# Altium integrated library WCAP-PSLC_rev15a.intlib: 29 symbols
Pins are listed as number, name and electrical type; pins without a type are passive.

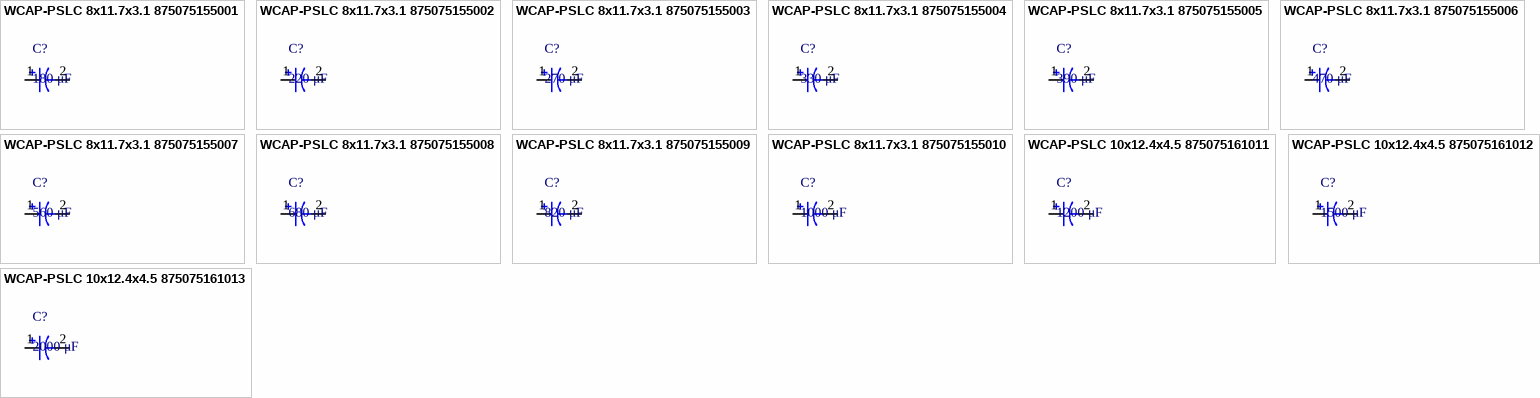
[diagram p0: symbols WCAP-PSLC 8x11.7x3.1 875075155001 to WCAP-PSLC 10x12.4x4.5 875075161013]

## WCAP-PSLC 8x11.7x3.1 875075155001
designator C?, comment 180 μF
WCAP-PSLC Aluminum Polymer Capacitors , 180 μF; + / - 20%; 6,3 V , 8 x 11,7; Manufacturer: Wurth Elektronik; partNo: 875075155001; E-mail: libraries@we-online.com; Characteristics: Aluminum Polymer Capacitors; Recommended soldering: Reflow; Operating temperature: –55 °C to +105 °C; Large capacitance SMD product series; Very low ESR at high frequency range; High permissible ripple current; Long life and high reliability; Load life: 2000 h @ +105 °C; ComponentLink1Description: Manufacturer; ComponentLink1URL: http://www.we-online.com; ComponentLink2Description: Datasheet; ComponentLink2URL: http://katalog.we-online.de/pbs/datasheet/875075155001.pdf; Created by: Karrer Zheng; Created Date: 6/8/2015; Capacitance: 180 μF; Application: Low voltage port filtering, appplid to high-end switching power supply, PC(desktop,laptop ),industrial computer, VGA card, server power, charger, TV, digital set-top box,DC-DC power module, game machine etc which consume large current with high speed circuit.
footprint WCAP-PSLC 8x11.7x3.1
pins: 1, 2

## WCAP-PSLC 8x11.7x3.1 875075155002
designator C?, comment 220 μF
WCAP-PSLC Aluminum Polymer Capacitors , 220 μF; + / - 20%; 6,3 V , 8 x 11,7; Manufacturer: Wurth Elektronik; partNo: 875075155002; E-mail: libraries@we-online.com; Characteristics: Aluminum Polymer Capacitors; Recommended soldering: Reflow; Operating temperature: –55 °C to +105 °C; Large capacitance SMD product series; Very low ESR at high frequency range; High permissible ripple current; Long life and high reliability; Load life: 2000 h @ +105 °C; ComponentLink1Description: Manufacturer; ComponentLink1URL: http://www.we-online.com; ComponentLink2Description: Datasheet; ComponentLink2URL: http://katalog.we-online.de/pbs/datasheet/875075155002.pdf; Created by: Karrer Zheng; Created Date: 6/8/2015; Capacitance: 220 μF; Application: Low voltage port filtering, appplid to high-end switching power supply, PC(desktop,laptop ),industrial computer, VGA card, server power, charger, TV, digital set-top box,DC-DC power module, game machine etc which consume large current with high speed circuit.
footprint WCAP-PSLC 8x11.7x3.1
pins: 1, 2

## WCAP-PSLC 8x11.7x3.1 875075155003
designator C?, comment 270 μF
WCAP-PSLC Aluminum Polymer Capacitors , 270 μF; + / - 20%; 6,3 V , 8 x 11,7; Manufacturer: Wurth Elektronik; partNo: 875075155003; E-mail: libraries@we-online.com; Characteristics: Aluminum Polymer Capacitors; Recommended soldering: Reflow; Operating temperature: –55 °C to +105 °C; Large capacitance SMD product series; Very low ESR at high frequency range; High permissible ripple current; Long life and high reliability; Load life: 2000 h @ +105 °C; ComponentLink1Description: Manufacturer; ComponentLink1URL: http://www.we-online.com; ComponentLink2Description: Datasheet; ComponentLink2URL: http://katalog.we-online.de/pbs/datasheet/875075155003.pdf; Created by: Karrer Zheng; Created Date: 6/8/2015; Capacitance: 270 μF; Application: Low voltage port filtering, appplid to high-end switching power supply, PC(desktop,laptop ),industrial computer, VGA card, server power, charger, TV, digital set-top box,DC-DC power module, game machine etc which consume large current with high speed circuit.
footprint WCAP-PSLC 8x11.7x3.1
pins: 1, 2

## WCAP-PSLC 8x11.7x3.1 875075155004
designator C?, comment 330 μF
WCAP-PSLC Aluminum Polymer Capacitors , 330 μF; + / - 20%; 6,3 V , 8 x 11,7; Manufacturer: Wurth Elektronik; partNo: 875075155004; E-mail: libraries@we-online.com; Characteristics: Aluminum Polymer Capacitors; Recommended soldering: Reflow; Operating temperature: –55 °C to +105 °C; Large capacitance SMD product series; Very low ESR at high frequency range; High permissible ripple current; Long life and high reliability; Load life: 2000 h @ +105 °C; ComponentLink1Description: Manufacturer; ComponentLink1URL: http://www.we-online.com; ComponentLink2Description: Datasheet; ComponentLink2URL: http://katalog.we-online.de/pbs/datasheet/875075155004.pdf; Created by: Karrer Zheng; Created Date: 6/8/2015; Capacitance: 330 μF; Application: Low voltage port filtering, appplid to high-end switching power supply, PC(desktop,laptop ),industrial computer, VGA card, server power, charger, TV, digital set-top box,DC-DC power module, game machine etc which consume large current with high speed circuit.
footprint WCAP-PSLC 8x11.7x3.1
pins: 1, 2

## WCAP-PSLC 8x11.7x3.1 875075155005
designator C?, comment 390 μF
WCAP-PSLC Aluminum Polymer Capacitors , 390 μF; + / - 20%; 6,3 V , 8 x 11,7; Manufacturer: Wurth Elektronik; partNo: 875075155005; E-mail: libraries@we-online.com; Characteristics: Aluminum Polymer Capacitors; Recommended soldering: Reflow; Operating temperature: –55 °C to +105 °C; Large capacitance SMD product series; Very low ESR at high frequency range; High permissible ripple current; Long life and high reliability; Load life: 2000 h @ +105 °C; ComponentLink1Description: Manufacturer; ComponentLink1URL: http://www.we-online.com; ComponentLink2Description: Datasheet; ComponentLink2URL: http://katalog.we-online.de/pbs/datasheet/875075155005.pdf; Created by: Karrer Zheng; Created Date: 6/8/2015; Capacitance: 390 μF; Application: Low voltage port filtering, appplid to high-end switching power supply, PC(desktop,laptop ),industrial computer, VGA card, server power, charger, TV, digital set-top box,DC-DC power module, game machine etc which consume large current with high speed circuit.
footprint WCAP-PSLC 8x11.7x3.1
pins: 1, 2

## WCAP-PSLC 8x11.7x3.1 875075155006
designator C?, comment 470 μF
WCAP-PSLC Aluminum Polymer Capacitors , 470 μF; + / - 20%; 6,3 V , 8 x 11,7; Manufacturer: Wurth Elektronik; partNo: 875075155006; E-mail: libraries@we-online.com; Characteristics: Aluminum Polymer Capacitors; Recommended soldering: Reflow; Operating temperature: –55 °C to +105 °C; Large capacitance SMD product series; Very low ESR at high frequency range; High permissible ripple current; Long life and high reliability; Load life: 2000 h @ +105 °C; ComponentLink1Description: Manufacturer; ComponentLink1URL: http://www.we-online.com; ComponentLink2Description: Datasheet; ComponentLink2URL: http://katalog.we-online.de/pbs/datasheet/875075155006.pdf; Created by: Karrer Zheng; Created Date: 6/8/2015; Capacitance: 470 μF; Application: Low voltage port filtering, appplid to high-end switching power supply, PC(desktop,laptop ),industrial computer, VGA card, server power, charger, TV, digital set-top box,DC-DC power module, game machine etc which consume large current with high speed circuit.
footprint WCAP-PSLC 8x11.7x3.1
pins: 1, 2

## WCAP-PSLC 8x11.7x3.1 875075155007
designator C?, comment 560 μF
WCAP-PSLC Aluminum Polymer Capacitors , 560 μF; + / - 20%; 6,3 V , 8 x 11,7; Manufacturer: Wurth Elektronik; partNo: 875075155007; E-mail: libraries@we-online.com; Characteristics: Aluminum Polymer Capacitors; Recommended soldering: Reflow; Operating temperature: –55 °C to +105 °C; Large capacitance SMD product series; Very low ESR at high frequency range; High permissible ripple current; Long life and high reliability; Load life: 2000 h @ +105 °C; ComponentLink1Description: Manufacturer; ComponentLink1URL: http://www.we-online.com; ComponentLink2Description: Datasheet; ComponentLink2URL: http://katalog.we-online.de/pbs/datasheet/875075155007.pdf; Created by: Karrer Zheng; Created Date: 6/8/2015; Capacitance: 560 μF; Application: Low voltage port filtering, appplid to high-end switching power supply, PC(desktop,laptop ),industrial computer, VGA card, server power, charger, TV, digital set-top box,DC-DC power module, game machine etc which consume large current with high speed circuit.
footprint WCAP-PSLC 8x11.7x3.1
pins: 1, 2

## WCAP-PSLC 8x11.7x3.1 875075155008
designator C?, comment 680 μF
WCAP-PSLC Aluminum Polymer Capacitors , 680 μF; + / - 20%; 6,3 V , 8 x 11,7; Manufacturer: Wurth Elektronik; partNo: 875075155008; E-mail: libraries@we-online.com; Characteristics: Aluminum Polymer Capacitors; Recommended soldering: Reflow; Operating temperature: –55 °C to +105 °C; Large capacitance SMD product series; Very low ESR at high frequency range; High permissible ripple current; Long life and high reliability; Load life: 2000 h @ +105 °C; ComponentLink1Description: Manufacturer; ComponentLink1URL: http://www.we-online.com; ComponentLink2Description: Datasheet; ComponentLink2URL: http://katalog.we-online.de/pbs/datasheet/875075155008.pdf; Created by: Karrer Zheng; Created Date: 6/8/2015; Capacitance: 680 μF; Application: Low voltage port filtering, appplid to high-end switching power supply, PC(desktop,laptop ),industrial computer, VGA card, server power, charger, TV, digital set-top box,DC-DC power module, game machine etc which consume large current with high speed circuit.
footprint WCAP-PSLC 8x11.7x3.1
pins: 1, 2

## WCAP-PSLC 8x11.7x3.1 875075155009
designator C?, comment 820 μF
WCAP-PSLC Aluminum Polymer Capacitors , 820 μF; + / - 20%; 6,3 V , 8 x 11,7; Manufacturer: Wurth Elektronik; partNo: 875075155009; E-mail: libraries@we-online.com; Characteristics: Aluminum Polymer Capacitors; Recommended soldering: Reflow; Operating temperature: –55 °C to +105 °C; Large capacitance SMD product series; Very low ESR at high frequency range; High permissible ripple current; Long life and high reliability; Load life: 2000 h @ +105 °C; ComponentLink1Description: Manufacturer; ComponentLink1URL: http://www.we-online.com; ComponentLink2Description: Datasheet; ComponentLink2URL: http://katalog.we-online.de/pbs/datasheet/875075155009.pdf; Created by: Karrer Zheng; Created Date: 6/8/2015; Capacitance: 820 μF; Application: Low voltage port filtering, appplid to high-end switching power supply, PC(desktop,laptop ),industrial computer, VGA card, server power, charger, TV, digital set-top box,DC-DC power module, game machine etc which consume large current with high speed circuit.
footprint WCAP-PSLC 8x11.7x3.1
pins: 1, 2

## WCAP-PSLC 8x11.7x3.1 875075155010
designator C?, comment 1000 μF
WCAP-PSLC Aluminum Polymer Capacitors , 1000 μF; + / - 20%; 6,3 V , 8 x 11,7; Manufacturer: Wurth Elektronik; partNo: 875075155010; E-mail: libraries@we-online.com; Characteristics: Aluminum Polymer Capacitors; Recommended soldering: Reflow; Operating temperature: –55 °C to +105 °C; Large capacitance SMD product series; Very low ESR at high frequency range; High permissible ripple current; Long life and high reliability; Load life: 2000 h @ +105 °C; ComponentLink1Description: Manufacturer; ComponentLink1URL: http://www.we-online.com; ComponentLink2Description: Datasheet; ComponentLink2URL: http://katalog.we-online.de/pbs/datasheet/875075155010.pdf; Created by: Karrer Zheng; Created Date: 6/8/2015; Capacitance: 1000 μF; Application: Low voltage port filtering, appplid to high-end switching power supply, PC(desktop,laptop ),industrial computer, VGA card, server power, charger, TV, digital set-top box,DC-DC power module, game machine etc which consume large current with high speed circuit.
footprint WCAP-PSLC 8x11.7x3.1
pins: 1, 2

## WCAP-PSLC 10x12.4x4.5 875075161011
designator C?, comment 1200 μF
WCAP-PSLC Aluminum Polymer Capacitors , 1200 μF; + / - 20%; 6,3 V , 10 x 12,4; Manufacturer: Wurth Elektronik; partNo: 875075161011; E-mail: libraries@we-online.com; Characteristics: Aluminum Polymer Capacitors; Recommended soldering: Reflow; Operating temperature: –55 °C to +105 °C; Large capacitance SMD product series; Very low ESR at high frequency range; High permissible ripple current; Long life and high reliability; Load life: 2000 h @ +105 °C; ComponentLink1Description: Manufacturer; ComponentLink1URL: http://www.we-online.com; ComponentLink2Description: Datasheet; ComponentLink2URL: http://katalog.we-online.de/pbs/datasheet/875075161011.pdf; Created by: Karrer Zheng; Created Date: 6/8/2015; Capacitance: 1200 μF; Application: Low voltage port filtering, appplid to high-end switching power supply, PC(desktop,laptop ),industrial computer, VGA card, server power, charger, TV, digital set-top box,DC-DC power module, game machine etc which consume large current with high speed circuit.
footprint WCAP-PSLC 10x12.4x4.5
pins: 1, 2

## WCAP-PSLC 10x12.4x4.5 875075161012
designator C?, comment 1500 μF
WCAP-PSLC Aluminum Polymer Capacitors , 1500 μF; + / - 20%; 6,3 V , 10 x 12,4; Manufacturer: Wurth Elektronik; partNo: 875075161012; E-mail: libraries@we-online.com; Characteristics: Aluminum Polymer Capacitors; Recommended soldering: Reflow; Operating temperature: –55 °C to +105 °C; Large capacitance SMD product series; Very low ESR at high frequency range; High permissible ripple current; Long life and high reliability; Load life: 2000 h @ +105 °C; ComponentLink1Description: Manufacturer; ComponentLink1URL: http://www.we-online.com; ComponentLink2Description: Datasheet; ComponentLink2URL: http://katalog.we-online.de/pbs/datasheet/875075161012.pdf; Created by: Karrer Zheng; Created Date: 6/8/2015; Capacitance: 1500 μF; Application: Low voltage port filtering, appplid to high-end switching power supply, PC(desktop,laptop ),industrial computer, VGA card, server power, charger, TV, digital set-top box,DC-DC power module, game machine etc which consume large current with high speed circuit.
footprint WCAP-PSLC 10x12.4x4.5
pins: 1, 2

## WCAP-PSLC 10x12.4x4.5 875075161013
designator C?, comment 2000 μF
WCAP-PSLC Aluminum Polymer Capacitors , 2000 μF; + / - 20%; 6,3 V , 10 x 12,4; Manufacturer: Wurth Elektronik; partNo: 875075161013; E-mail: libraries@we-online.com; Characteristics: Aluminum Polymer Capacitors; Recommended soldering: Reflow; Operating temperature: –55 °C to +105 °C; Large capacitance SMD product series; Very low ESR at high frequency range; High permissible ripple current; Long life and high reliability; Load life: 2000 h @ +105 °C; ComponentLink1Description: Manufacturer; ComponentLink1URL: http://www.we-online.com; ComponentLink2Description: Datasheet; ComponentLink2URL: http://katalog.we-online.de/pbs/datasheet/875075161013.pdf; Created by: Karrer Zheng; Created Date: 6/8/2015; Capacitance: 2000 μF; Application: Low voltage port filtering, appplid to high-end switching power supply, PC(desktop,laptop ),industrial computer, VGA card, server power, charger, TV, digital set-top box,DC-DC power module, game machine etc which consume large current with high speed circuit.
footprint WCAP-PSLC 10x12.4x4.5
pins: 1, 2


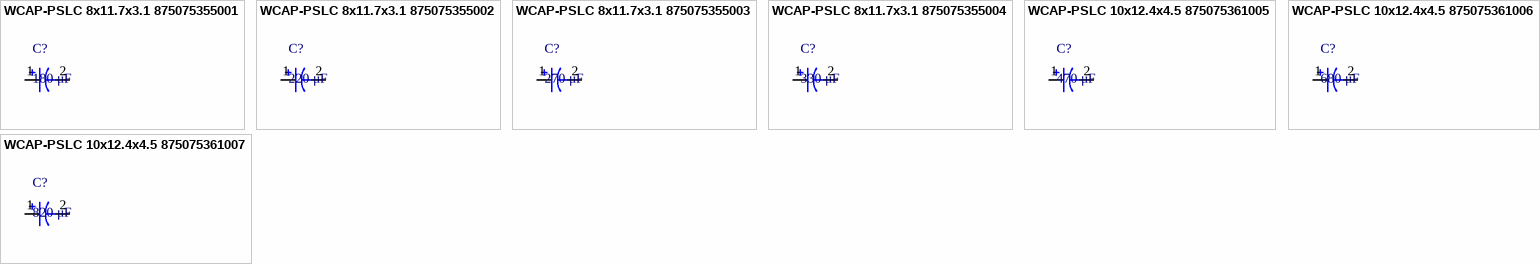
[diagram p1: symbols WCAP-PSLC 8x11.7x3.1 875075355001 to WCAP-PSLC 10x12.4x4.5 875075361007]

## WCAP-PSLC 8x11.7x3.1 875075355001
designator C?, comment 180 μF
WCAP-PSLC Aluminum Polymer Capacitors , 180 μF; + / - 20%; 16 V , 8 x 11,7; Manufacturer: Wurth Elektronik; partNo: 875075355001; E-mail: libraries@we-online.com; Characteristics: Aluminum Polymer Capacitors; Recommended soldering: Reflow; Operating temperature: –55 °C to +105 °C; Large capacitance SMD product series; Very low ESR at high frequency range; High permissible ripple current; Long life and high reliability; Load life: 2000 h @ +105 °C; ComponentLink1Description: Manufacturer; ComponentLink1URL: http://www.we-online.com; ComponentLink2Description: Datasheet; ComponentLink2URL: http://katalog.we-online.de/pbs/datasheet/875075355001.pdf; Created by: Karrer Zheng; Created Date: 6/8/2015; Capacitance: 180 μF; Application: Low voltage port filtering, appplid to high-end switching power supply, PC(desktop,laptop ),industrial computer, VGA card, server power, charger, TV, digital set-top box,DC-DC power module, game machine etc which consume large current with high speed circuit.
footprint WCAP-PSLC 8x11.7x3.1
pins: 1, 2

## WCAP-PSLC 8x11.7x3.1 875075355002
designator C?, comment 220 μF
WCAP-PSLC Aluminum Polymer Capacitors , 220 μF; + / - 20%; 16 V , 8 x 11,7; Manufacturer: Wurth Elektronik; partNo: 875075355002; E-mail: libraries@we-online.com; Characteristics: Aluminum Polymer Capacitors; Recommended soldering: Reflow; Operating temperature: –55 °C to +105 °C; Large capacitance SMD product series; Very low ESR at high frequency range; High permissible ripple current; Long life and high reliability; Load life: 2000 h @ +105 °C; ComponentLink1Description: Manufacturer; ComponentLink1URL: http://www.we-online.com; ComponentLink2Description: Datasheet; ComponentLink2URL: http://katalog.we-online.de/pbs/datasheet/875075355002.pdf; Created by: Karrer Zheng; Created Date: 6/8/2015; Capacitance: 220 μF; Application: Low voltage port filtering, appplid to high-end switching power supply, PC(desktop,laptop ),industrial computer, VGA card, server power, charger, TV, digital set-top box,DC-DC power module, game machine etc which consume large current with high speed circuit.
footprint WCAP-PSLC 8x11.7x3.1
pins: 1, 2

## WCAP-PSLC 8x11.7x3.1 875075355003
designator C?, comment 270 μF
WCAP-PSLC Aluminum Polymer Capacitors , 270 μF; + / - 20%; 16 V , 8 x 11,7; Manufacturer: Wurth Elektronik; partNo: 875075355003; E-mail: libraries@we-online.com; Characteristics: Aluminum Polymer Capacitors; Recommended soldering: Reflow; Operating temperature: –55 °C to +105 °C; Large capacitance SMD product series; Very low ESR at high frequency range; High permissible ripple current; Long life and high reliability; Load life: 2000 h @ +105 °C; ComponentLink1Description: Manufacturer; ComponentLink1URL: http://www.we-online.com; ComponentLink2Description: Datasheet; ComponentLink2URL: http://katalog.we-online.de/pbs/datasheet/875075355003.pdf; Created by: Karrer Zheng; Created Date: 6/8/2015; Capacitance: 270 μF; Application: Low voltage port filtering, appplid to high-end switching power supply, PC(desktop,laptop ),industrial computer, VGA card, server power, charger, TV, digital set-top box,DC-DC power module, game machine etc which consume large current with high speed circuit.
footprint WCAP-PSLC 8x11.7x3.1
pins: 1, 2

## WCAP-PSLC 8x11.7x3.1 875075355004
designator C?, comment 330 μF
WCAP-PSLC Aluminum Polymer Capacitors , 330 μF; + / - 20%; 16 V , 8 x 11,7; Manufacturer: Wurth Elektronik; partNo: 875075355004; E-mail: libraries@we-online.com; Characteristics: Aluminum Polymer Capacitors; Recommended soldering: Reflow; Operating temperature: –55 °C to +105 °C; Large capacitance SMD product series; Very low ESR at high frequency range; High permissible ripple current; Long life and high reliability; Load life: 2000 h @ +105 °C; ComponentLink1Description: Manufacturer; ComponentLink1URL: http://www.we-online.com; ComponentLink2Description: Datasheet; ComponentLink2URL: http://katalog.we-online.de/pbs/datasheet/875075355004.pdf; Created by: Karrer Zheng; Created Date: 6/8/2015; Capacitance: 330 μF; Application: Low voltage port filtering, appplid to high-end switching power supply, PC(desktop,laptop ),industrial computer, VGA card, server power, charger, TV, digital set-top box,DC-DC power module, game machine etc which consume large current with high speed circuit.
footprint WCAP-PSLC 8x11.7x3.1
pins: 1, 2

## WCAP-PSLC 10x12.4x4.5 875075361005
designator C?, comment 470 μF
WCAP-PSLC Aluminum Polymer Capacitors , 470 μF; + / - 20%; 16 V , 10 x 12,4; Manufacturer: Wurth Elektronik; partNo: 875075361005; E-mail: libraries@we-online.com; Characteristics: Aluminum Polymer Capacitors; Recommended soldering: Reflow; Operating temperature: –55 °C to +105 °C; Large capacitance SMD product series; Very low ESR at high frequency range; High permissible ripple current; Long life and high reliability; Load life: 2000 h @ +105 °C; ComponentLink1Description: Manufacturer; ComponentLink1URL: http://www.we-online.com; ComponentLink2Description: Datasheet; ComponentLink2URL: http://katalog.we-online.de/pbs/datasheet/875075361005.pdf; Created by: Karrer Zheng; Created Date: 6/8/2015; Capacitance: 470 μF; Application: Low voltage port filtering, appplid to high-end switching power supply, PC(desktop,laptop ),industrial computer, VGA card, server power, charger, TV, digital set-top box,DC-DC power module, game machine etc which consume large current with high speed circuit.
footprint WCAP-PSLC 10x12.4x4.5
pins: 1, 2

## WCAP-PSLC 10x12.4x4.5 875075361006
designator C?, comment 680 μF
WCAP-PSLC Aluminum Polymer Capacitors , 680 μF; + / - 20%; 16 V , 10 x 12,4; Manufacturer: Wurth Elektronik; partNo: 875075361006; E-mail: libraries@we-online.com; Characteristics: Aluminum Polymer Capacitors; Recommended soldering: Reflow; Operating temperature: –55 °C to +105 °C; Large capacitance SMD product series; Very low ESR at high frequency range; High permissible ripple current; Long life and high reliability; Load life: 2000 h @ +105 °C; ComponentLink1Description: Manufacturer; ComponentLink1URL: http://www.we-online.com; ComponentLink2Description: Datasheet; ComponentLink2URL: http://katalog.we-online.de/pbs/datasheet/875075361006.pdf; Created by: Karrer Zheng; Created Date: 6/8/2015; Capacitance: 680 μF; Application: Low voltage port filtering, appplid to high-end switching power supply, PC(desktop,laptop ),industrial computer, VGA card, server power, charger, TV, digital set-top box,DC-DC power module, game machine etc which consume large current with high speed circuit.
footprint WCAP-PSLC 10x12.4x4.5
pins: 1, 2

## WCAP-PSLC 10x12.4x4.5 875075361007
designator C?, comment 820 μF
WCAP-PSLC Aluminum Polymer Capacitors , 820 μF; + / - 20%; 16 V , 10 x 12,4; Manufacturer: Wurth Elektronik; partNo: 875075361007; E-mail: libraries@we-online.com; Characteristics: Aluminum Polymer Capacitors; Recommended soldering: Reflow; Operating temperature: –55 °C to +105 °C; Large capacitance SMD product series; Very low ESR at high frequency range; High permissible ripple current; Long life and high reliability; Load life: 2000 h @ +105 °C; ComponentLink1Description: Manufacturer; ComponentLink1URL: http://www.we-online.com; ComponentLink2Description: Datasheet; ComponentLink2URL: http://katalog.we-online.de/pbs/datasheet/875075361007.pdf; Created by: Karrer Zheng; Created Date: 6/8/2015; Capacitance: 820 μF; Application: Low voltage port filtering, appplid to high-end switching power supply, PC(desktop,laptop ),industrial computer, VGA card, server power, charger, TV, digital set-top box,DC-DC power module, game machine etc which consume large current with high speed circuit.
footprint WCAP-PSLC 10x12.4x4.5
pins: 1, 2


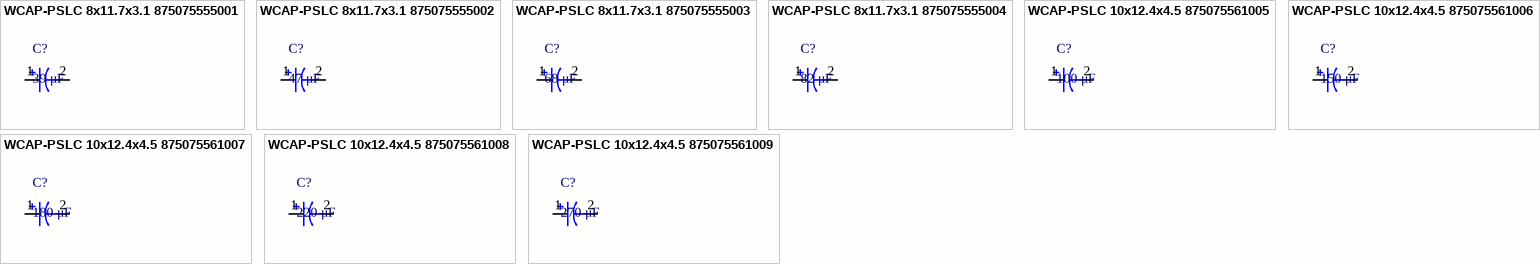
[diagram p2: symbols WCAP-PSLC 8x11.7x3.1 875075555001 to WCAP-PSLC 10x12.4x4.5 875075561009]

## WCAP-PSLC 8x11.7x3.1 875075555001
designator C?, comment 39 μF
WCAP-PSLC Aluminum Polymer Capacitors , 39 μF; + / - 20%; 25 V , 8 x 11,7; Manufacturer: Wurth Elektronik; partNo: 875075555001; E-mail: libraries@we-online.com; Characteristics: Aluminum Polymer Capacitors; Recommended soldering: Reflow; Operating temperature: –55 °C to +105 °C; Large capacitance SMD product series; Very low ESR at high frequency range; High permissible ripple current; Long life and high reliability; Load life: 2000 h @ +105 °C; ComponentLink1Description: Manufacturer; ComponentLink1URL: http://www.we-online.com; ComponentLink2Description: Datasheet; ComponentLink2URL: http://katalog.we-online.de/pbs/datasheet/875075555001.pdf; Created by: Karrer Zheng; Created Date: 6/8/2015; Capacitance: 39 μF; Application: Low voltage port filtering, appplid to high-end switching power supply, PC(desktop,laptop ),industrial computer, VGA card, server power, charger, TV, digital set-top box,DC-DC power module, game machine etc which consume large current with high speed circuit.
footprint WCAP-PSLC 8x11.7x3.1
pins: 1, 2

## WCAP-PSLC 8x11.7x3.1 875075555002
designator C?, comment 47 μF
WCAP-PSLC Aluminum Polymer Capacitors , 47 μF; + / - 20%; 25 V , 8 x 11,7; Manufacturer: Wurth Elektronik; partNo: 875075555002; E-mail: libraries@we-online.com; Characteristics: Aluminum Polymer Capacitors; Recommended soldering: Reflow; Operating temperature: –55 °C to +105 °C; Large capacitance SMD product series; Very low ESR at high frequency range; High permissible ripple current; Long life and high reliability; Load life: 2000 h @ +105 °C; ComponentLink1Description: Manufacturer; ComponentLink1URL: http://www.we-online.com; ComponentLink2Description: Datasheet; ComponentLink2URL: http://katalog.we-online.de/pbs/datasheet/875075555002.pdf; Created by: Karrer Zheng; Created Date: 6/8/2015; Capacitance: 47 μF; Application: Low voltage port filtering, appplid to high-end switching power supply, PC(desktop,laptop ),industrial computer, VGA card, server power, charger, TV, digital set-top box,DC-DC power module, game machine etc which consume large current with high speed circuit.
footprint WCAP-PSLC 8x11.7x3.1
pins: 1, 2

## WCAP-PSLC 8x11.7x3.1 875075555003
designator C?, comment 68 μF
WCAP-PSLC Aluminum Polymer Capacitors , 68 μF; + / - 20%; 25 V , 8 x 11,7; Manufacturer: Wurth Elektronik; partNo: 875075555003; E-mail: libraries@we-online.com; Characteristics: Aluminum Polymer Capacitors; Recommended soldering: Reflow; Operating temperature: –55 °C to +105 °C; Large capacitance SMD product series; Very low ESR at high frequency range; High permissible ripple current; Long life and high reliability; Load life: 2000 h @ +105 °C; ComponentLink1Description: Manufacturer; ComponentLink1URL: http://www.we-online.com; ComponentLink2Description: Datasheet; ComponentLink2URL: http://katalog.we-online.de/pbs/datasheet/875075555003.pdf; Created by: Karrer Zheng; Created Date: 6/8/2015; Capacitance: 68 μF; Application: Low voltage port filtering, appplid to high-end switching power supply, PC(desktop,laptop ),industrial computer, VGA card, server power, charger, TV, digital set-top box,DC-DC power module, game machine etc which consume large current with high speed circuit.
footprint WCAP-PSLC 8x11.7x3.1
pins: 1, 2

## WCAP-PSLC 8x11.7x3.1 875075555004
designator C?, comment 82 μF
WCAP-PSLC Aluminum Polymer Capacitors , 82 μF; + / - 20%; 25 V , 8 x 11,7; Manufacturer: Wurth Elektronik; partNo: 875075555004; E-mail: libraries@we-online.com; Characteristics: Aluminum Polymer Capacitors; Recommended soldering: Reflow; Operating temperature: –55 °C to +105 °C; Large capacitance SMD product series; Very low ESR at high frequency range; High permissible ripple current; Long life and high reliability; Load life: 2000 h @ +105 °C; ComponentLink1Description: Manufacturer; ComponentLink1URL: http://www.we-online.com; ComponentLink2Description: Datasheet; ComponentLink2URL: http://katalog.we-online.de/pbs/datasheet/875075555004.pdf; Created by: Karrer Zheng; Created Date: 6/8/2015; Capacitance: 82 μF; Application: Low voltage port filtering, appplid to high-end switching power supply, PC(desktop,laptop ),industrial computer, VGA card, server power, charger, TV, digital set-top box,DC-DC power module, game machine etc which consume large current with high speed circuit.
footprint WCAP-PSLC 8x11.7x3.1
pins: 1, 2

## WCAP-PSLC 10x12.4x4.5 875075561005
designator C?, comment 100 μF
WCAP-PSLC Aluminum Polymer Capacitors , 100 μF; + / - 20%; 25 V , 10 x 12,4; Manufacturer: Wurth Elektronik; partNo: 875075561005; E-mail: libraries@we-online.com; Characteristics: Aluminum Polymer Capacitors; Recommended soldering: Reflow; Operating temperature: –55 °C to +105 °C; Large capacitance SMD product series; Very low ESR at high frequency range; High permissible ripple current; Long life and high reliability; Load life: 2000 h @ +105 °C; ComponentLink1Description: Manufacturer; ComponentLink1URL: http://www.we-online.com; ComponentLink2Description: Datasheet; ComponentLink2URL: http://katalog.we-online.de/pbs/datasheet/875075561005.pdf; Created by: Karrer Zheng; Created Date: 6/8/2015; Capacitance: 100 μF; Application: Low voltage port filtering, appplid to high-end switching power supply, PC(desktop,laptop ),industrial computer, VGA card, server power, charger, TV, digital set-top box,DC-DC power module, game machine etc which consume large current with high speed circuit.
footprint WCAP-PSLC 10x12.4x4.5
pins: 1, 2

## WCAP-PSLC 10x12.4x4.5 875075561006
designator C?, comment 150 μF
WCAP-PSLC Aluminum Polymer Capacitors , 150 μF; + / - 20%; 25 V , 10 x 12,4; Manufacturer: Wurth Elektronik; partNo: 875075561006; E-mail: libraries@we-online.com; Characteristics: Aluminum Polymer Capacitors; Recommended soldering: Reflow; Operating temperature: –55 °C to +105 °C; Large capacitance SMD product series; Very low ESR at high frequency range; High permissible ripple current; Long life and high reliability; Load life: 2000 h @ +105 °C; ComponentLink1Description: Manufacturer; ComponentLink1URL: http://www.we-online.com; ComponentLink2Description: Datasheet; ComponentLink2URL: http://katalog.we-online.de/pbs/datasheet/875075561006.pdf; Created by: Karrer Zheng; Created Date: 6/8/2015; Capacitance: 150 μF; Application: Low voltage port filtering, appplid to high-end switching power supply, PC(desktop,laptop ),industrial computer, VGA card, server power, charger, TV, digital set-top box,DC-DC power module, game machine etc which consume large current with high speed circuit.
footprint WCAP-PSLC 10x12.4x4.5
pins: 1, 2

## WCAP-PSLC 10x12.4x4.5 875075561007
designator C?, comment 180 μF
WCAP-PSLC Aluminum Polymer Capacitors , 180 μF; + / - 20%; 25 V , 10 x 12,4; Manufacturer: Wurth Elektronik; partNo: 875075561007; E-mail: libraries@we-online.com; Characteristics: Aluminum Polymer Capacitors; Recommended soldering: Reflow; Operating temperature: –55 °C to +105 °C; Large capacitance SMD product series; Very low ESR at high frequency range; High permissible ripple current; Long life and high reliability; Load life: 2000 h @ +105 °C; ComponentLink1Description: Manufacturer; ComponentLink1URL: http://www.we-online.com; ComponentLink2Description: Datasheet; ComponentLink2URL: http://katalog.we-online.de/pbs/datasheet/875075561007.pdf; Created by: Karrer Zheng; Created Date: 6/8/2015; Capacitance: 180 μF; Application: Low voltage port filtering, appplid to high-end switching power supply, PC(desktop,laptop ),industrial computer, VGA card, server power, charger, TV, digital set-top box,DC-DC power module, game machine etc which consume large current with high speed circuit.
footprint WCAP-PSLC 10x12.4x4.5
pins: 1, 2

## WCAP-PSLC 10x12.4x4.5 875075561008
designator C?, comment 220 μF
WCAP-PSLC Aluminum Polymer Capacitors , 220 μF; + / - 20%; 25 V , 10 x 12,4; Manufacturer: Wurth Elektronik; partNo: 875075561008; E-mail: libraries@we-online.com; Characteristics: Aluminum Polymer Capacitors; Recommended soldering: Reflow; Operating temperature: –55 °C to +105 °C; Large capacitance SMD product series; Very low ESR at high frequency range; High permissible ripple current; Long life and high reliability; Load life: 2000 h @ +105 °C; ComponentLink1Description: Manufacturer; ComponentLink1URL: http://www.we-online.com; ComponentLink2Description: Datasheet; ComponentLink2URL: http://katalog.we-online.de/pbs/datasheet/875075561008.pdf; Created by: Karrer Zheng; Created Date: 6/8/2015; Capacitance: 220 μF; Application: Low voltage port filtering, appplid to high-end switching power supply, PC(desktop,laptop ),industrial computer, VGA card, server power, charger, TV, digital set-top box,DC-DC power module, game machine etc which consume large current with high speed circuit.
footprint WCAP-PSLC 10x12.4x4.5
pins: 1, 2

## WCAP-PSLC 10x12.4x4.5 875075561009
designator C?, comment 270 μF
WCAP-PSLC Aluminum Polymer Capacitors , 270 μF; + / - 20%; 25 V , 10 x 12,4; Manufacturer: Wurth Elektronik; partNo: 875075561009; E-mail: libraries@we-online.com; Characteristics: Aluminum Polymer Capacitors; Recommended soldering: Reflow; Operating temperature: –55 °C to +105 °C; Large capacitance SMD product series; Very low ESR at high frequency range; High permissible ripple current; Long life and high reliability; Load life: 2000 h @ +105 °C; ComponentLink1Description: Manufacturer; ComponentLink1URL: http://www.we-online.com; ComponentLink2Description: Datasheet; ComponentLink2URL: http://katalog.we-online.de/pbs/datasheet/875075561009.pdf; Created by: Karrer Zheng; Created Date: 6/8/2015; Capacitance: 270 μF; Application: Low voltage port filtering, appplid to high-end switching power supply, PC(desktop,laptop ),industrial computer, VGA card, server power, charger, TV, digital set-top box,DC-DC power module, game machine etc which consume large current with high speed circuit.
footprint WCAP-PSLC 10x12.4x4.5
pins: 1, 2